# Altium schematic symbol library ife19_TS_BMS_v2.SchLib: 2 symbols
Pins are listed as number, name and electrical type; pins without a type are passive.

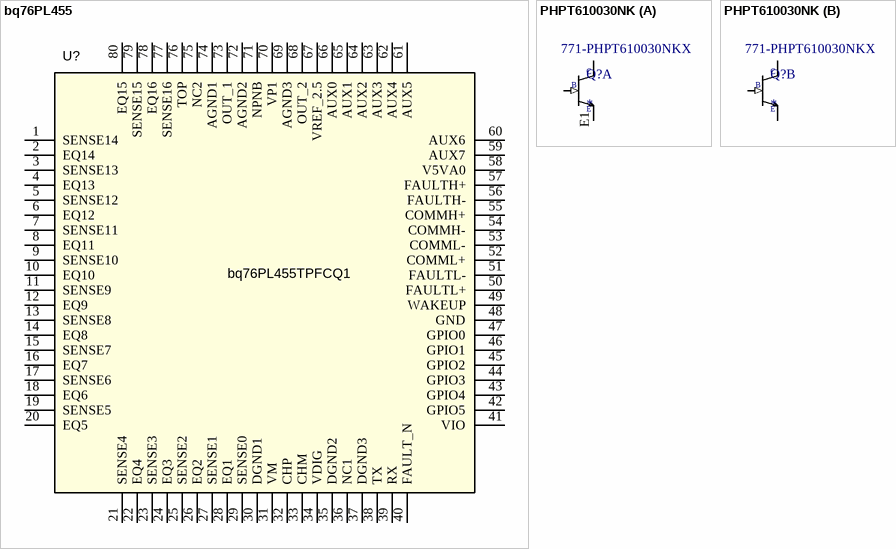
[diagram p0: symbols bq76PL455 to PHPT610030NK]

## bq76PL455
designator U?, comment bq76PL455TPFCQ1
16 Cell Battery Stack Monitor with Passive Cell Balancing; Manufacturer: Texas Instruments; CompType: Used in BOM report; SymbolVersion: use current date i.e. 2008-05-20; SymbolCreator: Use LDAP id; MountType: SMT; RoHS: Y; PartNumber: bq76PL455TPFCQ1; PackageReference: VHB80A; ComponentLink1Description: Datasheet Link
footprint VHB80A_L (Thin QFP, 80-Leads, Body 12x12mm, Pitch 0.5mm, IPC High Density)
footprint VHB80A_N (Thin QFP, 80-Leads, Body 12x12mm, Pitch 0.5mm, IPC Medium Density)
footprint VHB80A_M (Thin QFP, 80-Leads, Body 12x12mm, Pitch 0.5mm, IPC Low Density)
footprint 455D-socket (Dual footprint for socket with ability to also solder part.)
pins: 1 SENSE14, 2 EQ14, 3 SENSE13, 4 EQ13, 5 SENSE12, 6 EQ12, 7 SENSE11, 8 EQ11, 9 SENSE10, 10 EQ10, 11 SENSE9, 12 EQ9, 13 SENSE8, 14 EQ8, 15 SENSE7, 16 EQ7, 17 SENSE6, 18 EQ6, 19 SENSE5, 20 EQ5, 21 SENSE4, 22 EQ4, 23 SENSE3, 24 EQ3, 25 SENSE2, 26 EQ2, 27 SENSE1, 28 EQ1, 29 SENSE0, 30 DGND1, 31 VM, 32 CHP, 33 CHM, 34 VDIG, 35 DGND2, 36 NC1, 37 DGND3, 38 TX, 39 RX, 40 FAULT_N, 41 VIO, 42 GPIO5, 43 GPIO4, 44 GPIO3, 45 GPIO2, 46 GPIO1, 47 GPIO0, 48 GND, 49 WAKEUP, 50 FAULTL+, 51 FAULTL-, 52 COMML+, 53 COMML-, 54 COMMH-, 55 COMMH+, 56 FAULTH-, 57 FAULTH+, 58 V5VA0, 59 AUX7, 60 AUX6, 61 AUX5, 62 AUX4, 63 AUX3, 64 AUX2, 65 AUX1, 66 AUX0, 67 VREF_2.5, 68 OUT_2, 69 AGND3, 70 VP1, 71 NPNB, 72 AGND2, 73 OUT_1, 74 AGND1, 75 NC2, 76 TOP, 77 SENSE16, 78 EQ16, 79 SENSE15, 80 EQ15

## PHPT610030NK
designator Q?  Supplier Part Number 1: 771-PHPT610030NKX
Dual BJT 100V, 3A, hfe>250 / Nexperia; CompType: Used in BOM Report; Manufacturer: Nexperia; MountingType: SMT; MouserPartNumber: PHPT610030NKX; Supplier 1: Mouser
footprint LFPAK-56-8 (Power SO-8 package from Nexperia)
part A pins: B1 (in), C1 (power), E1 (power)
part B pins: B2 (in), C2 (power), E2 (power)
part A text: C; B; E
part B text: C; B; E